# Altium schematic symbol library Optoisolators.SchLib: 2 symbols
Pins are listed as number, name and electrical type; pins without a type are passive.

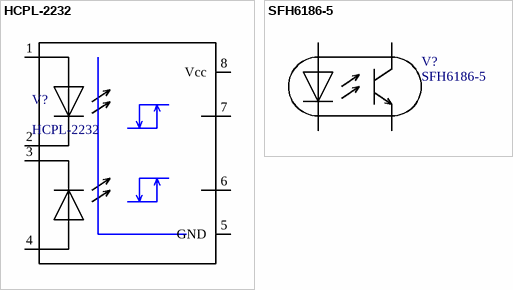
[diagram p0: symbols HCPL-2232 to SFH6186-5]

## HCPL-2232
designator V?
High Speed Optocouplers 5MBd 2Ch 1.8mA
footprint PDIP-8
pins: 1 A1, 2 K1, 3 K2, 4 A2, 5 GND, 6 Vo2, 7 Vo1, 8 Vcc

## SFH6186-5
designator V?
Optocoupler, Phototransistor Output, Low Input Current
footprint SMD-4P
pins: A, C, E, K